# EAGLE library part 690357102672 (library Wurth_Elektronik2)
WR-MM Male Connector with Polarization, 26 Pins=>Code : Con_BTB_MM_Male_THT_690357102672 <http://katalog.we-online.de/media/thumbs2/eican/thb_Con_BTB_MM_Male_THT_69035710xx72_pf2.jpg> Details see: http://katalog.we-online.de/en/em/6903_5710_xx_72 Created 2014-06-04, Karrer Zheng 2014 (C) Würth Elektronik
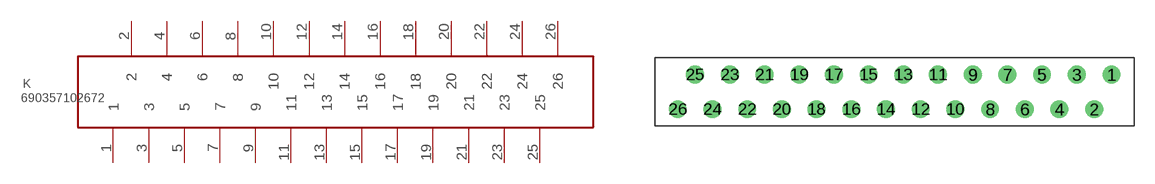
[diagram p331: symbol with the pads of 690357102672; footprint 690357102672]

Designator prefix K

## 690357102672  [690357102672]
1  1  pas
2  2  pas
3  3  pas
4  4  pas
5  5  pas
6  6  pas
7  7  pas
8  8  pas
9  9  pas
10  10  pas
11  11  pas
12  12  pas
13  13  pas
14  14  pas
15  15  pas
16  16  pas
17  17  pas
18  18  pas
19  19  pas
20  20  pas
21  21  pas
22  22  pas
23  23  pas
24  24  pas
25  25  pas
26  26  pas

## Footprint 690357102672 (pad centres in mm)
WR-MM Male Connector with Polarization, 26 Pins
drill 0.8: 1 17.145,1.27; 2 15.875,-1.27; 3 14.605,1.27; 4 13.335,-1.27; 5 12.065,1.27; 6 10.795,-1.27; 7 9.525,1.27; 8 8.255,-1.27; 9 6.985,1.27; 10 5.715,-1.27; 11 4.445,1.27; 12 3.175,-1.27; 13 1.905,1.27; 14 0.635,-1.27; 15 -0.635,1.27; 16 -1.905,-1.27; 17 -3.175,1.27; 18 -4.445,-1.27; 19 -5.715,1.27; 20 -6.985,-1.27; 21 -8.255,1.27; 22 -9.525,-1.27; 23 -10.795,1.27; 24 -12.065,-1.27; 25 -13.335,1.27; 26 -14.605,-1.27